# Altium footprint library ArduinoUno_project.PcbLib: 31 footprints (part 2 of 2)
Each footprint in its own frame and in the unit in brackets; x right, y up, seen from the top. Pads: shape width x height; smd on the part's side, far side on the other; paste and mask are expansions set on the pad; w line width, h text height; cw(c..) or ccw(c..) is an arc to the next point about the centre after c.
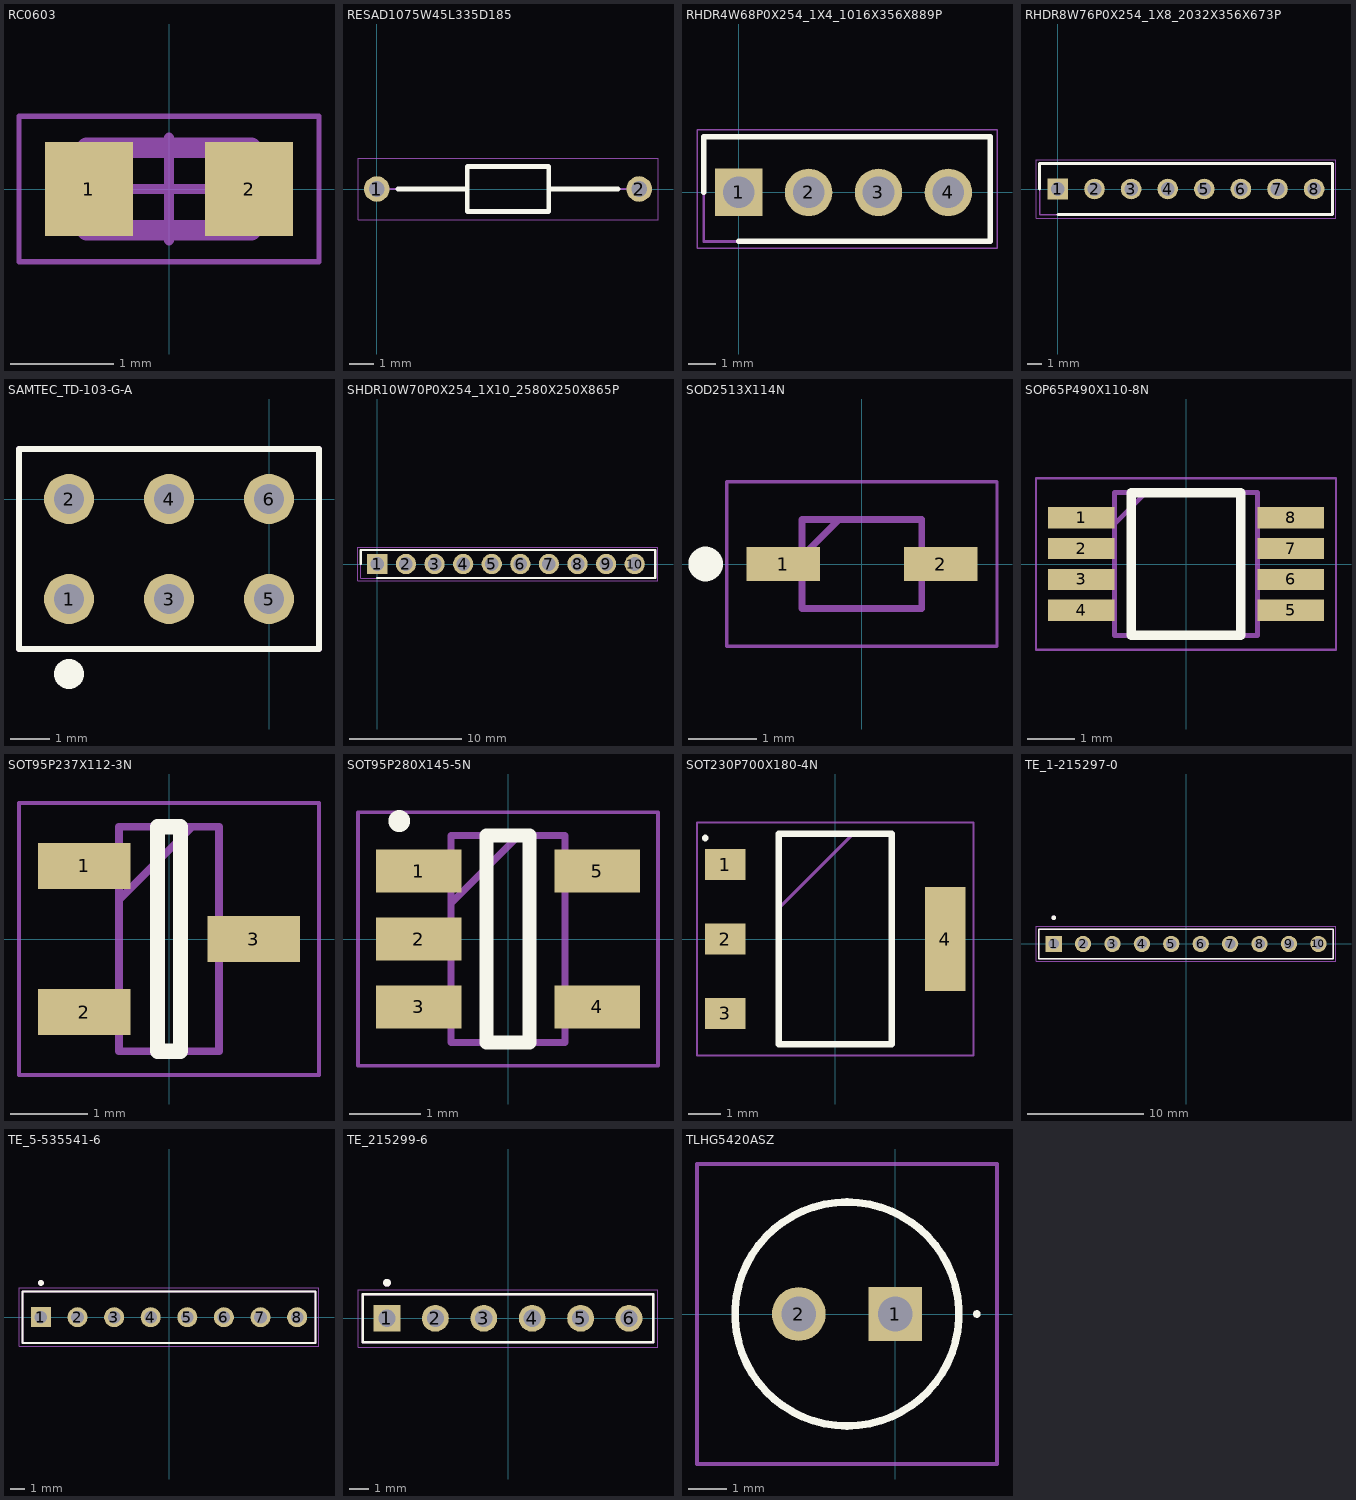
[diagram p1: the footprints below, top view; thin cyan lines are the x and y axes]

## RC0603 [mm]
pads (2):
  rect 0.859x0.912 smd paste+0 mask+0: 1(-0.777,0) 2(0.777,0)
Mechanical 5:
  lines w0.05: -1.456,-0.706 1.456,-0.706 1.456,0.706 -1.456,0.706 -1.456,-0.706
Mechanical 13:
  lines w0.2: -0.8,-0.4 0.8,-0.4 0.8,0.4 -0.8,0.4 -0.8,-0.4
Mechanical 15:
  lines w0.05: -1.456,-0.706 1.456,-0.706 1.456,0.706 -1.456,0.706 -1.456,-0.706
Mechanical 16:
  lines w0.1: -0.5,0 0.5,0 ; 0,-0.5 0,0.5
3D body "Res_Yageo_RC0603FR-07100KL_eec.STEP": height 0.25, standoff 0, extent -1.456,-0.706 1.456,0.706

## RESAD1075W45L335D185 [mm]
pads (2):
  round 1.05 hole 0.65: 1(0,0) 2(10.8,0)
Top Overlay:
  lines w0.2: 0.875,0 3.725,0 ; 7.075,0 9.925,0 ; 3.725,-0.925 7.075,-0.925 7.075,0.925 3.725,0.925 3.725,-0.925
Mechanical 15:
  lines w0.1: 0,0 3.725,0 ; 7.075,0 10.8,0 ; 3.725,-0.925 7.075,-0.925 7.075,0.925 3.725,0.925 3.725,-0.925
Mechanical 20:
  lines w0.05: -0.775,-1.275 11.575,-1.275 11.575,1.275 -0.775,1.275 -0.775,-1.275
3D body "MFS1_4CC1001F.stp": height 2.09, standoff -2.1, extent -0.265,-1.016 10.933,1.08

## RHDR4W68P0X254_1X4_1016X356X889P [mm]
pads (4):
  rect 1.725x1.725 / inner round 1.725 / far side rect 1.725x1.725 hole 1.15: 1(0,0)
  round 1.725 hole 1.15: 2(2.54,0) 3(5.08,0) 4(7.62,0)
Top Overlay:
  lines w0.2: -1.27,0 -1.27,2.03 9.14,2.03 9.14,-1.78 0,-1.78
Mechanical 15:
  lines w0.1: -1.27,-1.78 -1.27,2.03 9.14,2.03 9.14,-1.78 -1.27,-1.78
Mechanical 20:
  lines w0.05: -1.52,-2.03 -1.52,2.28 9.39,2.28 9.39,-2.03 -1.52,-2.03
3D body "5-146763-6.stp": height 8.5, standoff -3.06, extent -1.17,-1.658 8.99,1.898

## RHDR8W76P0X254_1X8_2032X356X673P [mm]
pads (8):
  rect 1.425x1.425 / inner round 1.425 / far side rect 1.425x1.425 hole 0.95: 1(0,0)
  round 1.425 hole 0.95: 2(2.54,0) 3(5.08,0) 4(7.62,0) 5(10.16,0) 6(12.7,0) 7(15.24,0) 8(17.78,0)
Top Overlay:
  lines w0.2: -1.27,0 -1.27,1.78 19.05,1.78 19.05,-1.78 0,-1.78
Mechanical 15:
  lines w0.1: -1.27,-1.78 19.05,-1.78 19.05,1.78 -1.27,1.78 -1.27,-1.78
Mechanical 20:
  lines w0.05: -1.52,-2.03 19.3,-2.03 19.3,2.03 -1.52,2.03 -1.52,-2.03
3D body "5-535541-6.stp": height 7, standoff -2.91, extent -1.24,-1.763 19.08,1.793

## SAMTEC_TD-103-G-A [mil]
pads (6):
  round 50 hole 30: 1(-200,-100) 2(-200,0) 3(-100,-100) 4(-100,0) 5(0,-100) 6(0,0)
Top Overlay:
  lines w6: -250,-150 -250,50 50,50 50,-150 -250,-150
  lines w20: -205,-175 cw(c-200,-175) -195,-175 cw(c-200,-175) -205,-175
Mechanical 13:
  lines w6: -250,-150 -250,50 50,50 50,-150 -250,-150
3D body "TD-103-G-A.stp": height 326, standoff -151, extent -247,-150 47,50

## SHDR10W70P0X254_1X10_2580X250X865P [mm]
pads (10):
  rect 1.8x1.8 / inner round 1.8 / far side rect 1.8x1.8 hole 1.2: 1(0,0)
  round 1.8 hole 1.2: 2(2.54,0) 3(5.08,0) 4(7.62,0) 5(10.16,0) 6(12.7,0) 7(15.24,0) 8(17.78,0) 9(20.32,0) 10(22.86,0)
Top Overlay:
  lines w0.2: -1.47,0 -1.47,1.25 24.68,1.25 24.68,-1.25 0,-1.25
Mechanical 15:
  lines w0.1: -1.47,-1.25 -1.47,1.25 24.68,1.25 24.68,-1.25 -1.47,-1.25
Mechanical 20:
  lines w0.05: -1.72,-1.5 -1.72,1.5 24.93,1.5 24.93,-1.5 -1.72,-1.5
3D body "M20-7821042.stp": height 8.65, standoff -3.25, extent -1.597,-1.23 24.203,1.27

## SOD2513X114N [mm]
pads (2):
  rect 1.075x0.5 smd: 1(-1.15,0) 2(1.15,0)
Top Overlay:
  circle w0.254: c-2.286,0 r0.127
Mechanical 13:
  lines w0.1: -0.875,0.112 -0.338,0.65 ; -0.875,-0.65 -0.875,0.65 0.875,0.65 0.875,-0.65 -0.875,-0.65
Mechanical 15:
  lines w0.05: -1.975,-1.2 -1.975,1.2 1.975,1.2 1.975,-1.2 -1.975,-1.2
3D body "CDSOD323-T05S.stp": height 1.14, standoff 0, extent -1.272,-0.65 1.272,0.65

## SOP65P490X110-8N [mm]
pads (8):
  rect 1.4x0.45 smd: 1(-2.2,0.975) 2(-2.2,0.325) 3(-2.2,-0.325) 4(-2.2,-0.975) 5(2.2,-0.975) 6(2.2,-0.325) 7(2.2,0.325) 8(2.2,0.975)
Top Overlay:
  lines w0.2: -1.15,-1.5 -1.15,1.5 1.15,1.5 1.15,-1.5 -1.15,-1.5
Mechanical 15:
  lines w0.1: -1.5,0.85 -0.85,1.5 ; -1.5,-1.5 -1.5,1.5 1.5,1.5 1.5,-1.5 -1.5,-1.5
Mechanical 20:
  lines w0.05: -3.15,-1.8 -3.15,1.8 3.15,1.8 3.15,-1.8 -3.15,-1.8
3D body "LMV358IDGKR.stp": height 1.1, standoff 0, extent -2.471,-1.488 2.431,1.509

## SOT95P237X112-3N [mm]
pads (3):
  rect 1.2x0.6 smd: 1(-1.1,0.95) 2(-1.1,-0.95) 3(1.1,0)
Top Overlay:
  lines w0.2: -0.15,-1.46 0.15,-1.46 0.15,1.46 -0.15,1.46 -0.15,-1.46
Mechanical 15:
  lines w0.1: -0.65,0.51 0.3,1.46 ; -0.65,-1.46 0.65,-1.46 0.65,1.46 -0.65,1.46 -0.65,-1.46
Mechanical 20:
  lines w0.05: -1.95,-1.77 1.95,-1.77 1.95,1.77 -1.95,1.77 -1.95,-1.77
3D body "FDN340P.stp": height 1.12, standoff 0, extent -1.21,-1.48 1.16,1.44

## SOT95P280X145-5N [mm]
pads (5):
  rect 1.2x0.6 smd: 1(-1.25,0.95) 2(-1.25,0) 3(-1.25,-0.95) 4(1.25,-0.95) 5(1.25,0.95)
Top Overlay:
  circle w0.254: c-1.524,1.651 r0.025
  lines w0.2: -0.3,-1.45 0.3,-1.45 0.3,1.45 -0.3,1.45 -0.3,-1.45
Mechanical 15:
  lines w0.1: -0.8,0.5 0.15,1.45 ; -0.8,-1.45 0.8,-1.45 0.8,1.45 -0.8,1.45 -0.8,-1.45
Mechanical 20:
  lines w0.05: -2.1,-1.775 2.1,-1.775 2.1,1.775 -2.1,1.775 -2.1,-1.775
3D body "LP2985-33DBVT.stp": height 1.2, standoff 0, extent -1.4,-1.45 1.4,1.45

## SOT230P700X180-4N [mm]
pads (4):
  rect 1.25x0.95 smd: 1(-3.4,2.3) 2(-3.4,0) 3(-3.4,-2.3)
  rect 1.25x3.2 smd: 4(3.4,0)
Top Overlay:
  lines w0.2: -4.025,3.125 -4.02,3.12 ; -1.75,-3.25 -1.75,3.25 1.75,3.25 1.75,-3.25 -1.75,-3.25
Mechanical 15:
  lines w0.1: -1.75,0.95 0.55,3.25 ; -1.75,-3.25 -1.75,3.25 1.75,3.25 1.75,-3.25 -1.75,-3.25
Mechanical 20:
  lines w0.05: -4.275,-3.6 -4.275,3.6 4.275,3.6 4.275,-3.6 -4.275,-3.6
3D body "NCP1117ST50T3G.stp": height 1.8, standoff 0, extent -3.58,-3.23 3.42,3.27

## TE_1-215297-0 [mm]
pads (10):
  rect 1.408x1.408 hole 0.9: 1(-11.43,0)
  round 1.408 hole 0.9: 2(-8.89,0) 3(-6.35,0) 4(-3.81,0) 5(-1.27,0) 6(1.27,0) 7(3.81,0) 8(6.35,0) 9(8.89,0) 10(11.43,0)
Top Overlay:
  circle w0.2: c-11.43,2.26 r0.1
  lines w0.127: -12.7,-1.26 -12.7,1.26 12.7,1.26 12.7,-1.26 -12.7,-1.26
Mechanical 13:
  circle w0.2: c-11.43,2.26 r0.1
  lines w0.127: -12.7,-1.26 -12.7,1.26 12.7,1.26 12.7,-1.26 -12.7,-1.26
Mechanical 15:
  lines w0.05: -12.95,-1.51 -12.95,1.51 12.95,1.51 12.95,-1.51 -12.95,-1.51
3D body "1-215297-0.stp": height 7, standoff -3, extent -12.85,-1.32 12.55,1.2

## TE_5-535541-6 [mm]
pads (8):
  rect 1.388x1.388 hole 0.88: 1(-8.89,0)
  round 1.388 hole 0.88: 2(-6.35,0) 3(-3.81,0) 4(-1.27,0) 5(1.27,0) 6(3.81,0) 7(6.35,0) 8(8.89,0)
Top Overlay:
  circle w0.2: c-8.89,2.38 r0.1
  lines w0.127: -10.16,-1.78 10.16,-1.78 10.16,1.78 -10.16,1.78 -10.16,-1.78
Mechanical 13:
  circle w0.2: c-8.89,2.38 r0.1
  lines w0.127: -10.16,-1.78 10.16,-1.78 10.16,1.78 -10.16,1.78 -10.16,-1.78
Mechanical 15:
  lines w0.05: -10.41,-2.03 10.41,-2.03 10.41,2.03 -10.41,2.03 -10.41,-2.03
3D body "5-535541-6--3DModel-STEP-1.STEP": height 6.6, standoff -3.3, extent -10.16,-1.778 10.16,1.778
3D body: height 0.25, standoff 0, extent -1.397,3.81 -1.397,3.81

## TE_215299-6 [mm]
pads (6):
  rect 1.408x1.408 hole 0.9: 1(-6.35,0)
  round 1.408 hole 0.9: 2(-3.81,0) 3(-1.27,0) 4(1.27,0) 5(3.81,0) 6(6.35,0)
Top Overlay:
  circle w0.2: c-6.35,1.86 r0.1
  lines w0.127: -7.62,-1.26 -7.62,1.26 7.62,1.26 7.62,-1.26 -7.62,-1.26
Mechanical 13:
  circle w0.2: c-6.35,1.86 r0.1
  lines w0.127: -7.62,-1.26 -7.62,1.26 7.62,1.26 7.62,-1.26 -7.62,-1.26
Mechanical 15:
  lines w0.05: -7.87,-1.51 -7.87,1.51 7.87,1.51 7.87,-1.51 -7.87,-1.51
3D body "215299-6--3DModel-STEP-1.STEP": height 9, standoff -2.5, extent -7.68,-1.31 7.56,1.21

## TLHG5420ASZ [mm]
pads (2):
  rect 1.416x1.416 hole 0.91: 1(0,0)
  round 1.416 hole 0.91: 2(-2.54,0)
Top Overlay:
  lines w0.1: 2.1,0 ccw(c2.15,0) 2.2,0 ccw(c2.15,0) 2.1,0
  lines w0.2: -1.27,-2.95 ccw(c-1.27,0) -1.27,2.95 ccw(c-1.27,0) -1.27,-2.95
Mechanical 15:
  lines w0.1: -1.27,-2.95 ccw(c-1.27,0) -1.27,2.95 ccw(c-1.27,0) -1.27,-2.95
Mechanical 20:
  lines w0.1: -5.22,-3.95 -5.22,3.95 2.68,3.95 2.68,-3.95 -5.22,-3.95
3D body "TLHG5420-ASZ.stp": height 11.14, standoff -22.86, extent -4.122,-2.974 1.328,2.921